# EAGLE library part FREESOC2_BREAKOUT (library custom_parts_library)
Breakout FreeSoc2 Pins For the relocker project
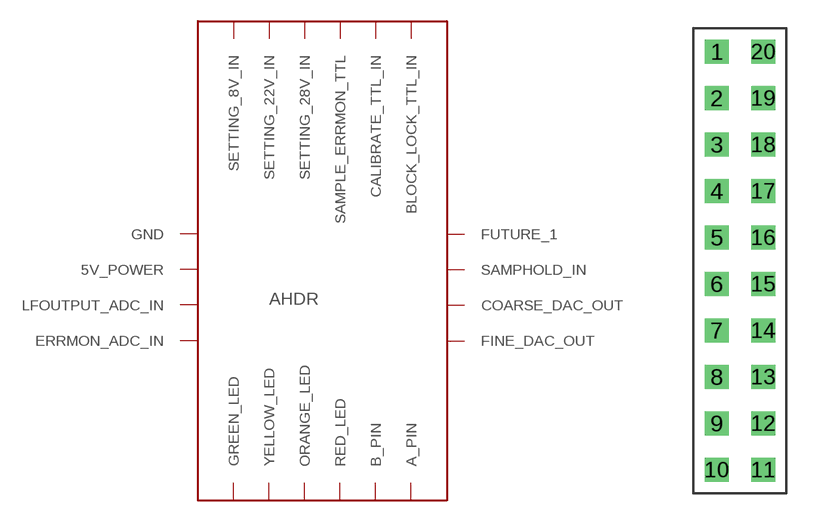
[diagram p0: symbol with the pads of FREESOC2_BREAKOUT; footprint FREESOC2_BREAKOUT]

Designator prefix AHDR

## FREESOC2_BREAKOUT  [FREESOC2_BREAKOUT]
1  5V_POWER  in
2  GND  in
3  LFOUTPUT_ADC_IN  in
4  ERRMON_ADC_IN  in
5  B_PIN
6  A_PIN
7  SETTING_28V_IN
8  SETTING_22V_IN
9  SETTING_8V_IN
10  COARSE_DAC_OUT
11  FINE_DAC_OUT
12  BLOCK_LOCK_TTL_IN
13  SAMPHOLD_IN
14  CALIBRATE_TTL_IN
15  SAMPLE_ERRMON_TTL
16  FUTURE_1
17  RED_LED
18  ORANGE_LED
19  YELLOW_LED
20  GREEN_LED

## Footprint FREESOC2_BREAKOUT (pad centres in mm)
Header to breakout Freesoc inputs and outputs
drill 0.8 square: 1 1.27,-1.27; 2 1.27,-3.81; 3 1.27,-6.35; 4 1.27,-8.89; 5 1.27,-11.43; 6 1.27,-13.97; 7 1.27,-16.51; 8 1.27,-19.05; 9 1.27,-21.59; 10 1.27,-24.13; 11 3.81,-24.13; 12 3.81,-21.59; 13 3.81,-19.05; 14 3.81,-16.51; 15 3.81,-13.97; 16 3.81,-11.43; 17 3.81,-8.89; 18 3.81,-6.35; 19 3.81,-3.81; 20 3.81,-1.27